# Altium footprint library QFN-12.PCBLIB: 1 footprints
Each footprint in its own frame and in the unit in brackets; x right, y up, seen from the top. Pads: shape width x height; smd on the part's side, far side on the other; paste and mask are expansions set on the pad; w line width, h text height; cw(c..) or ccw(c..) is an arc to the next point about the centre after c.
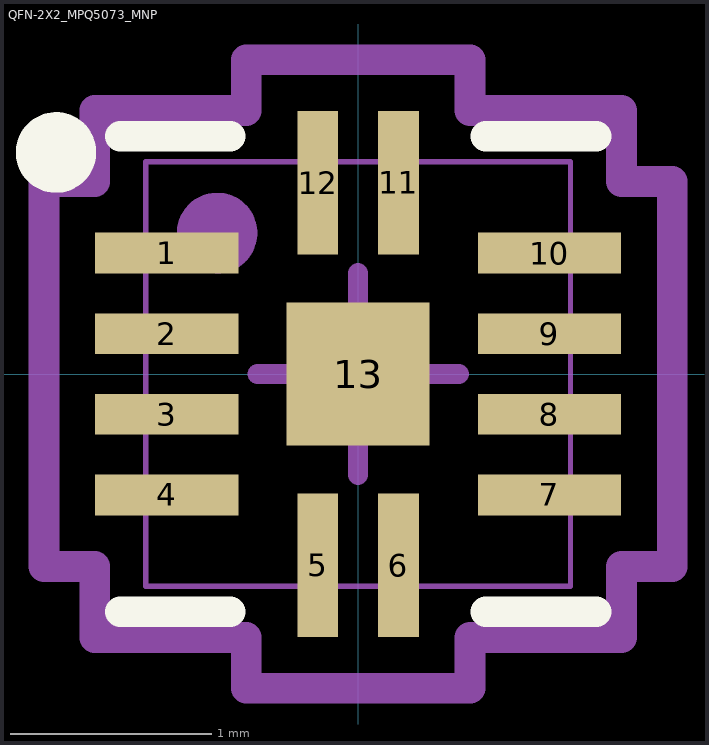
[diagram p0: the footprint, top view; thin cyan lines are the x and y axes]

## QFN-2X2_MPQ5073_MNP [mil]
pads (13):
  rect 28x8 smd paste+0 mask+0: 1(-37.4,23.62) 2(-37.4,7.87) 3(-37.4,-7.87) 4(-37.4,-23.62) 7(37.4,-23.62) 8(37.4,-7.87) 9(37.4,7.87) 10(37.4,23.62)
  rect 8x28 smd paste+0 mask+0: 5(-7.87,-37.4) 6(7.87,-37.4) 11(7.87,37.4) 12(-7.87,37.4)
  rect 28x28 smd paste+0 mask+0: 13(0,0)
Top Overlay:
  circle w7.87: c-59.06,43.31 r3.94
  lines w6: -46.5,-46.5 -24.97,-46.5 ; -46.5,46.5 -24.97,46.5 ; 24.97,-46.5 46.5,-46.5 ; 24.97,46.5 46.5,46.5
Top Assembly:
  circle w7.87: c-27.56,27.56 r3.94
  lines w1: -41.5,-41.5 41.5,-41.5 41.5,41.5 -41.5,41.5 -41.5,-41.5
Top Courtyard:
  lines w6: -61.4,-37.62 -61.4,37.62 -51.5,37.62 -51.5,51.5 -21.87,51.5 -21.87,61.4 21.87,61.4 21.87,51.5 51.5,51.5 51.5,37.62 61.4,37.62 61.4,-37.62 51.5,-37.62 51.5,-51.5 21.87,-51.5 21.87,-61.4 -21.87,-61.4 -21.87,-51.5 -51.5,-51.5 -51.5,-37.62 -61.4,-37.62
Top Designator:
  text ".Designator" at -11.81,-7.87 h39.37
Top Component Center:
  lines w3.94: -19.68,0 19.68,0 ; 0,-19.68 0,19.68
3D body "QFN-2X2_MPQ5073_MNP.step": height 37.09, standoff 0, extent -41.5,-41.5 41.5,41.5